# Altium schematic symbol library SN65HVD230DR.SchLib: 2 symbols
Pins are listed as number, name and electrical type; pins without a type are passive.

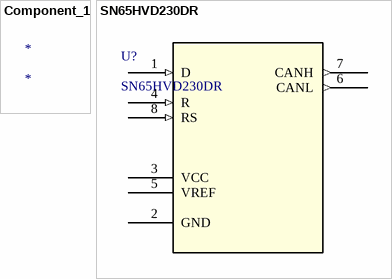
[diagram p0: symbols Component_1 to SN65HVD230DR]

## Component_1
designator *

## SN65HVD230DR
designator U?
No Description Available; Mfr_Name: Texas Instruments; Copyright: Copyright (C) 2023 Ultra Librarian. All rights reserved.; Manufacturer_Part_Number: SN65HVD230DR; RefDes: RefDes; Type: DEV
footprint D8
pins: 1 D (in), 2 GND (power), 3 VCC (power), 4 R (in), 5 VREF (power), 6 CANL (out), 7 CANH (out), 8 RS (in)